# EAGLE library part SBH41-NBPB-D15-SP (library con-sullins)
HEADER - Vertical, Shrouded
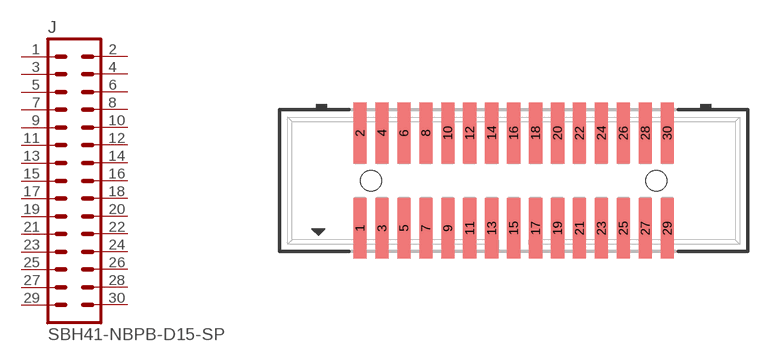
[diagram p52: symbol with the pads of SBH41-NBPB-D15-SP; footprint SBH41-NBPB-D15-SP]

Designator prefix J

## SBH41-NBPB-D15-SP  [SBH41-NBPB-D15-SP]
1  1  pas
2  2  pas
3  3  pas
4  4  pas
5  5  pas
6  6  pas
7  7  pas
8  8  pas
9  9  pas
10  10  pas
11  11  pas
12  12  pas
13  13  pas
14  14  pas
15  15  pas
16  16  pas
17  17  pas
18  18  pas
19  19  pas
20  20  pas
21  21  pas
22  22  pas
23  23  pas
24  24  pas
25  25  pas
26  26  pas
27  27  pas
28  28  pas
29  29  pas
30  30  pas

## Footprint SBH41-NBPB-D15-SP (pad centres in mm)
CONNECTOR HEADER 0.05" pitch
smd 0.762 x 3.505: 1 -8.89,-2.756; 2 -8.89,2.756; 3 -7.62,-2.756; 4 -7.62,2.756; 5 -6.35,-2.756; 6 -6.35,2.756; 7 -5.08,-2.756; 8 -5.08,2.756; 9 -3.81,-2.756; 10 -3.81,2.756; 11 -2.54,-2.756; 12 -2.54,2.756; 13 -1.27,-2.756; 14 -1.27,2.756; 15 0,-2.756; 16 0,2.756; 17 1.27,-2.756; 18 1.27,2.756; 19 2.54,-2.756; 20 2.54,2.756; 21 3.81,-2.756; 22 3.81,2.756; 23 5.08,-2.756; 24 5.08,2.756; 25 6.35,-2.756; 26 6.35,2.756; 27 7.62,-2.756; 28 7.62,2.756; 29 8.89,-2.756; 30 8.89,2.756
hole 1.194 at -8.255,0
hole 1.194 at 8.255,0